# Altium schematic symbol library STL10N3LLH5.SchLib: 1 symbol
Pins are listed as number, name and electrical type; pins without a type are passive.

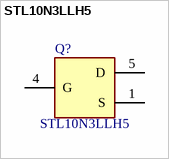
[diagram p0: symbol STL10N3LLH5]

## STL10N3LLH5
designator Q?
STMICROELECTRONICS - STL10N3LLH5 - MOSFET, N-CH, 30V, 9A, POWERFLAT; Geometry.Height: 1mm; Mouser Part Number: 511-STL10N3LLH5; Mouser Price/Stock: https://www.mouser.co.uk/ProductDetail/STMicroelectronics/STL10N3LLH5?qs=0gj%2FgiofzsOGxczN3DPYlA%3D%3D; Manufacturer_Name: STMicroelectronics; Manufacturer_Part_Number: STL10N3LLH5; Datasheet Link: https://www.st.com/resource/en/datasheet/stl10n3llh5.pdf
footprint STL10N3LLH5; pin to pad 1>1+2+3 5>5+6+7+8+9+10
pins: 1 S, 4 G, 5 D